# Altium schematic symbol library LTC3525ESC6-3.3TRMPBF.SchLib: 1 symbol
Pins are listed as number, name and electrical type; pins without a type are passive.

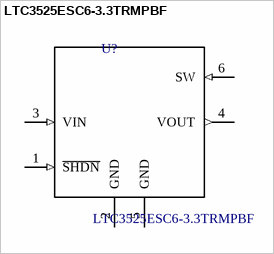
[diagram p0: symbol LTC3525ESC6-3.3TRMPBF]

## LTC3525ESC6-3.3TRMPBF
designator U?
Conv DC-DC Single Step Up 0.85V to 4.5V 6-Pin SC-70 T/R; MF: Linear Technology; MP: LTC3525ESC6-3.3#TRMPBF; Digi-Key_Part_Number: LTC3525ESC6-3.3#TRMPBFCT-ND; SnapEDA_Link: https://www.snapeda.com/parts/LTC3525ESC6-3.3%23TRMPBF/Linear%20Technology/Analog%20Devices/view-part/?ref=snap; Package: SC-70 Linear Technology; Digi-Key_Purchase_URL: https://www.digikey.com/product-detail/en/linear-technology-analog-devices/LTC3525ESC6-3.3-TRMPBF/LTC3525ESC6-3.3-TRMPBFCT-ND/1021098?utm_source=snapeda&utm_medium=aggregator&utm_campaign=symbol; Value: *
footprint SOT65P210X100-6N
pins: 1 ~{SHDN} (in), 2 GND, 3 VIN (in), 4 VOUT (out), 5 GND, 6 SW (in)